# Altium schematic symbol library RR1220P-5232-D-M.SchLib: 1 symbol
Pins are listed as number, name and electrical type; pins without a type are passive.

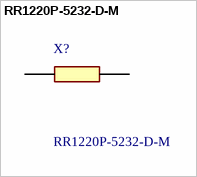
[diagram p0: symbol RR1220P-5232-D-M]

## RR1220P-5232-D-M
designator X?
Metal thin film chip resistor; Manufacturer_Name: Susumu; Geometry.Height: 0.5mm; Manufacturer_Part_Number: RR1220P-5232-D-M; Mouser Part Number: *; Mouser Price/Stock: *; Arrow Part Number: *; Arrow Price/Stock: *; Datasheet Link: https://www.susumu.co.jp/common/pdf/n_catalog_partition05_en.pdf
footprint RESC2012X50N
pins: 1, 2